# Altium integrated library ABM3B-8.000MHZ-B2-T.IntLib: 1 symbol
Pins are listed as number, name and electrical type; pins without a type are passive.

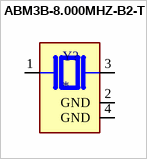
[diagram p0: symbol ABM3B-8.000MHZ-B2-T]

## ABM3B-8.000MHZ-B2-T
designator Y?
8 MHz Â±20ppm Crystal 18pF 200 Ohms 4-SMD, No Lead; MP: ABM3B-8.000MHZ-B2-T; MF: Abracon; Value: *; Availability: In Stock; Purchase-URL: https://pricing.snapeda.com/search/part/ABM3B-8.000MHZ-B2-T/?ref=eda; Package: SMD-4 Abracon LLC; Price: None; SnapEDA_Link: https://www.snapeda.com/parts/ABM3B-8.000MHZ-B2-T/Abracon+LLC/view-part/?ref=snap; Check_prices: https://www.snapeda.com/parts/ABM3B-8.000MHZ-B2-T/Abracon+LLC/view-part/?ref=eda
footprint XTAL_ABM3B-8.000MHZ-B2-T
pins: 1, 2 GND (power), 3 2, 4 GND (power)